# Altium schematic symbol library Microchip_Ethernet.SchLib: 2 symbols
Pins are listed as number, name and electrical type; pins without a type are passive.

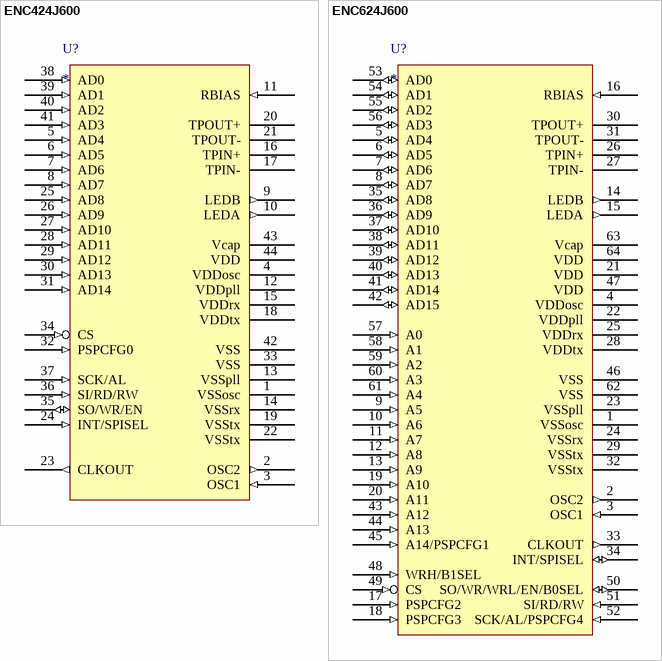
[diagram p0: symbols ENC424J600 to ENC624J600]

## ENC424J600
designator U?
footprint TQFP-44_M (44-Pin Thin Quad Flat Pack 0.8 mm Pitch, 1.0/0.1 mm Lead Form, IPC Low Density)
pins: 1 VSSosc, 2 OSC2 (out), 3 OSC1 (in), 4 VDDosc (power), 5 AD4 (in), 6 AD5 (in), 7 AD6 (in), 8 AD7 (in), 9 LEDB (out), 10 LEDA (out), 11 RBIAS (in), 12 VDDpll, 13 VSSpll, 14 VSSrx, 15 VDDrx (power), 16 TPIN+, 17 TPIN-, 18 VDDtx (power), 19 VSStx, 20 TPOUT+, 21 TPOUT-, 22 VSStx, 23 CLKOUT (out), 24 INT/SPISEL (in), 25 AD8 (in), 26 AD9 (in), 27 AD10 (in), 28 AD11 (in), 29 AD12 (in), 30 AD13 (in), 31 AD14 (in), 32 PSPCFG0 (in), 33 VSS, 34 CS (in), 35 SO/WR/EN (io), 36 SI/RD/RW (in), 37 SCK/AL (in), 38 AD0 (in), 39 AD1 (in), 40 AD2 (in), 41 AD3 (in), 42 VSS, 43 Vcap, 44 VDD (power)

## ENC624J600
designator U?
footprint TQFP-64_M (64-Pin Thin Plastic Quad Flat Pack 0.5 mm Pitch, 1.0/0.1 mm Lead Form, IPC Low Density)
pins: 1 VSSosc, 2 OSC2 (out), 3 OSC1 (in), 4 VDDosc (power), 5 AD4 (io), 6 AD5 (io), 7 AD6 (io), 8 AD7 (io), 9 A5 (in), 10 A6 (in), 11 A7 (in), 12 A8 (in), 13 A9 (in), 14 LEDB (out), 15 LEDA (out), 16 RBIAS (in), 17 PSPCFG2 (in), 18 PSPCFG3 (in), 19 A10 (in), 20 A11 (in), 21 VDD (power), 22 VDDpll, 23 VSSpll, 24 VSSrx, 25 VDDrx (power), 26 TPIN+, 27 TPIN-, 28 VDDtx (power), 29 VSStx, 30 TPOUT+, 31 TPOUT-, 32 VSStx, 33 CLKOUT (out), 34 INT/SPISEL (io), 35 AD8 (io), 36 AD9 (io), 37 AD10 (io), 38 AD11 (io), 39 AD12 (io), 40 AD13 (io), 41 AD14 (io), 42 AD15 (io), 43 A12 (in), 44 A13 (in), 45 A14/PSPCFG1 (in), 46 VSS, 47 VDD (power), 48 WRH/B1SEL (in), 49 CS (in), 50 SO/WR/WRL/EN/B0SEL (io), 51 SI/RD/RW (in), 52 SCK/AL/PSPCFG4 (in), 53 AD0 (io), 54 AD1 (io), 55 AD2 (io), 56 AD3 (io), 57 A0 (in), 58 A1 (in), 59 A2 (in), 60 A3 (in), 61 A4 (in), 62 VSS, 63 Vcap, 64 VDD (power)